# Altium schematic symbol library jumper_SPST.SchLib: 1 symbol
Pins are listed as number, name and electrical type; pins without a type are passive.

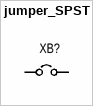
[diagram p0: symbol jumper_SPST]

## jumper_SPST
designator XB?
pins: 1, 2